# EAGLE library part SQJ952EP-T1_GE3 (library SQJ952EP-T1_GE3 - Dual N-Fet)
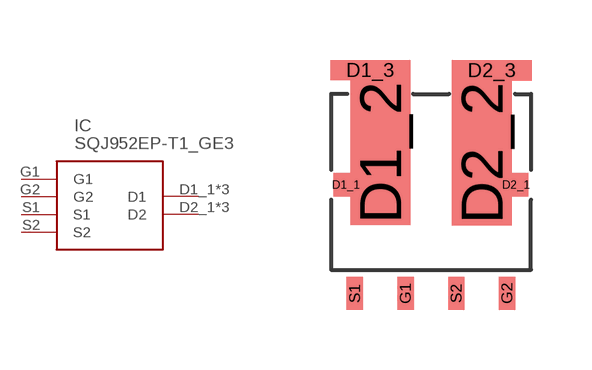
[diagram p0: symbol with the pads of SO-8L; footprint SO-8L]

Designator prefix IC

## SQJ952EP-T1_GE3  [SO-8L]
D1_1  D1
D1_2  D1
D1_3  D1
D2_1  D2
D2_2  D2
D2_3  D2
G1  G1
G2  G2
S1  S1
S2  S2

## Footprint SO-8L (pad centres in mm)
smd 0.61 x 0.595: D1_1 -2.121,-0.734; D2_1 2.135,-0.734
smd 1.5 x 3.63: D1_2 -1.263,0.072; D2_2 1.277,0.062
smd 2 x 0.51: D1_3 -1.513,2.138; D2_3 1.527,2.134
smd 0.41 x 0.82: G1 -0.628,-3.45; G2 1.912,-3.45; S1 -1.898,-3.45; S2 0.642,-3.45